# Altium footprint library VBlib_Switches.PcbLib: 20 footprints (part 1 of 2)
Each footprint in its own frame and in the unit in brackets; x right, y up, seen from the top. Pads: shape width x height; smd on the part's side, far side on the other; paste and mask are expansions set on the pad; w line width, h text height; cw(c..) or ccw(c..) is an arc to the next point about the centre after c.
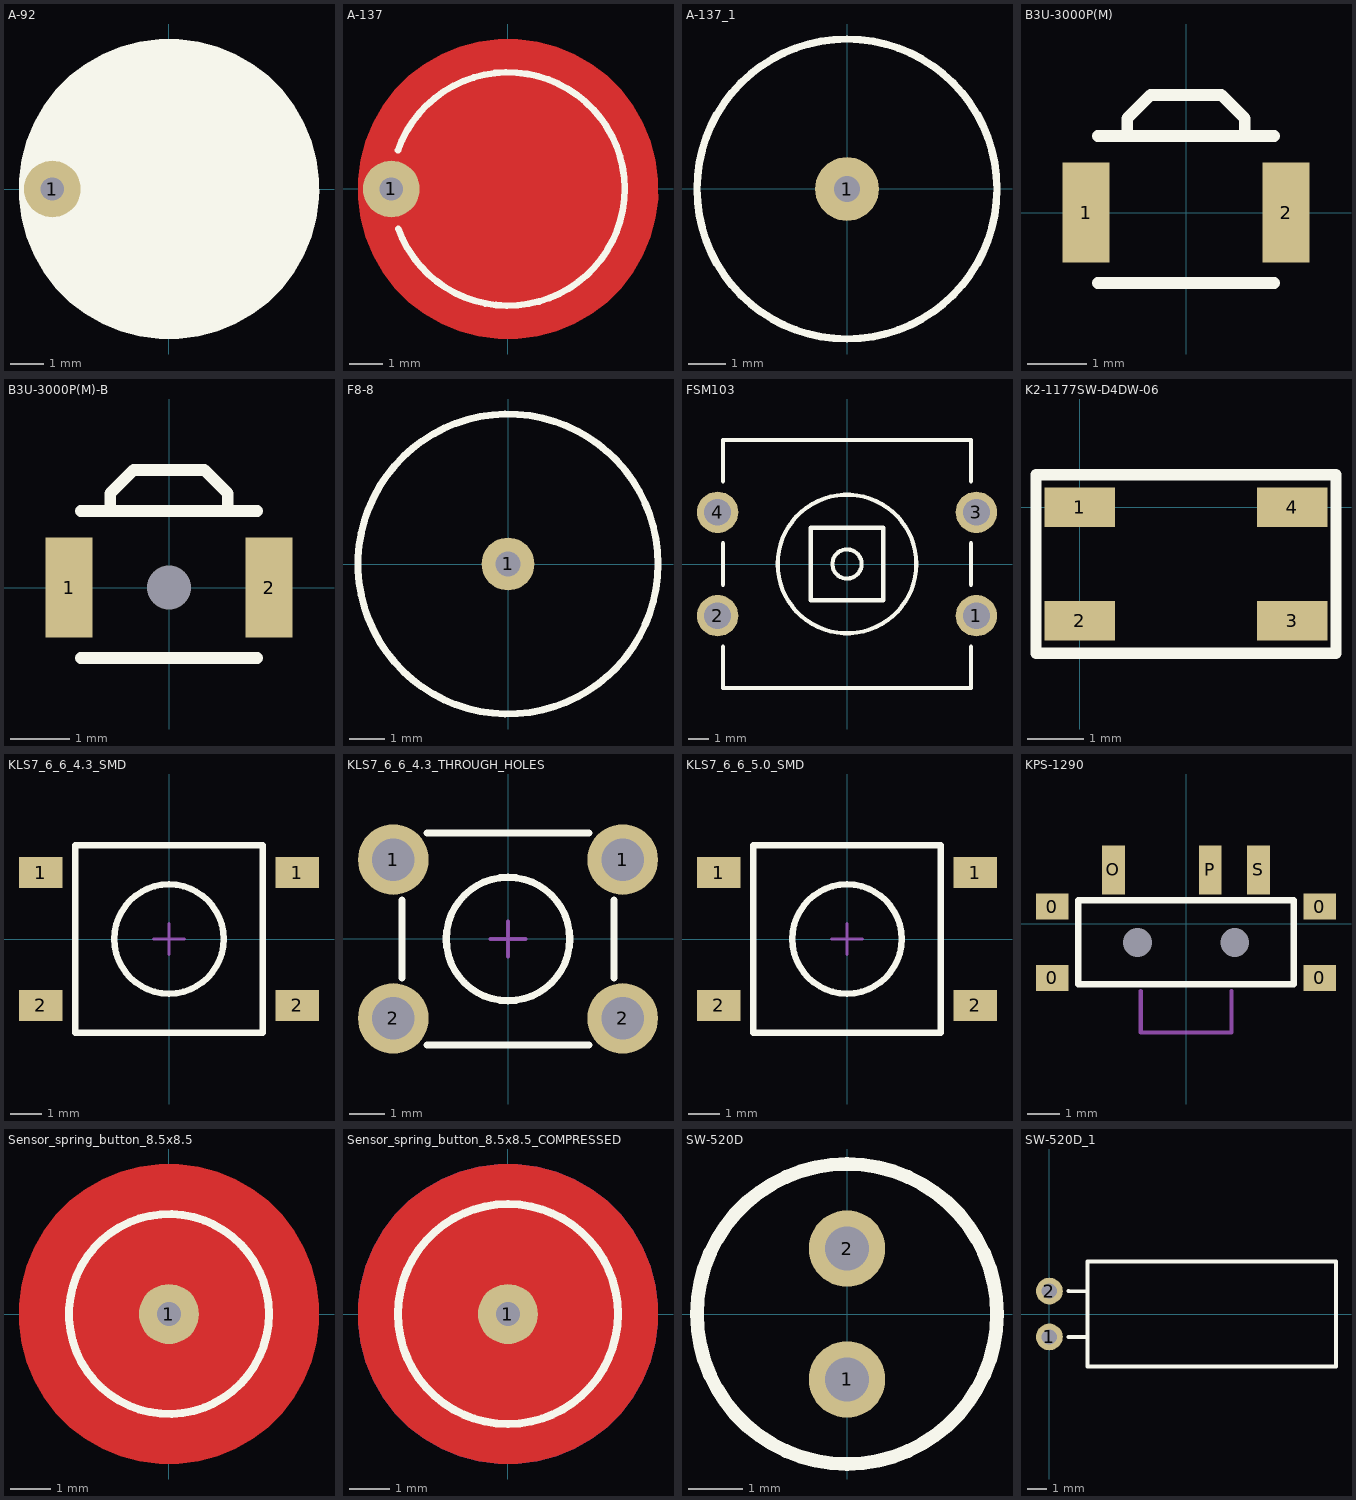
[diagram p0: the footprints below, top view; thin cyan lines are the x and y axes]

## A-92 [mm] "A-92 Sensor Spring"
height 16
pads (1):
  round 1.7 hole 0.7: 1(-3.5,0)
Top Overlay:
  pour cut-out: 0,4.5 0.295,4.5 0.88,4.423 1.45,4.27 1.995,4.045 2.505,3.75 2.973,3.39 3.39,2.973 3.75,2.505 4.045,1.995 4.27,1.45 4.423,0.88 4.5,0.295 4.5,0 4.5,-0.295 4.423,-0.88 4.27,-1.45 4.045,-1.995 3.75,-2.505 3.391,-2.973 2.973,-3.391 2.505,-3.75 1.995,-4.045 1.45,-4.27 0.88,-4.423 0.295,-4.5 0,-4.5 -0.295,-4.5 -0.88,-4.423 -1.45,-4.27 -1.995,-4.045 -2.505,-3.75 -2.973,-3.39 -3.39,-2.973 -3.75,-2.505 -4.045,-1.995 -4.27,-1.45 -4.423,-0.88 -4.5,-0.295 -4.5,0 -4.5,0.295 -4.423,0.88 -4.27,1.45 -4.045,1.995 -3.75,2.505 -3.391,2.973 -2.973,3.391 -2.505,3.75 -1.995,4.045 -1.45,4.27 -0.88,4.423 -0.295,4.5
  lines w0.2: -3.3,1.165 cw(c0,0) -3.289,-1.196
3D body "Sensor_Spring_A92.STEP": height 16.1, standoff -4.43, extent -6.193,-6.104 6.025,5.942

## A-137 [mm] "A-137 Sensor Spring"
height 4
pads (1):
  round 1.7 hole 0.7: 1(-3.5,0)
Top Layer:
  pour cut-out: 0,4.5 0.295,4.5 0.88,4.423 1.45,4.27 1.995,4.045 2.505,3.75 2.973,3.39 3.391,2.973 3.75,2.505 4.045,1.995 4.27,1.45 4.423,0.88 4.5,0.295 4.5,0 4.5,-0.295 4.423,-0.88 4.27,-1.45 4.045,-1.995 3.75,-2.505 3.391,-2.973 2.973,-3.391 2.505,-3.75 1.995,-4.045 1.45,-4.27 0.88,-4.423 0.295,-4.5 0,-4.5 -0.295,-4.5 -0.88,-4.423 -1.45,-4.27 -1.995,-4.045 -2.505,-3.75 -2.973,-3.39 -3.39,-2.973 -3.75,-2.505 -4.045,-1.995 -4.27,-1.45 -4.423,-0.88 -4.5,-0.295 -4.5,0 -4.5,0.295 -4.423,0.88 -4.27,1.45 -4.045,1.995 -3.75,2.505 -3.391,2.973 -2.973,3.391 -2.505,3.75 -1.995,4.045 -1.45,4.27 -0.88,4.423 -0.295,4.5
Top Overlay:
  lines w0.2: -3.3,1.165 cw(c0,0) -3.289,-1.196
3D body "Sensor_Spring_A137.STEP": height 4.72, standoff -2.03, extent -4.137,-4.164 4.183,4.073

## A-137_1 [mm]
height 6
pads (1):
  round 1.7 hole 0.7: 1(-0.011,-0.007)
Top Overlay:
  circle w0.2: c-0.011,-0.007 r4
3D body "Sensor_Spring_A137.STEP": height 7.22, standoff 0.47, extent -4.175,-4.126 4.145,4.112

## B3U-3000P(M) [mm] "Ultra-small Tactile Switch Without Ground Terminal"
height 1.2
pads (2):
  rect 0.8x1.7 smd: 1(-1.7,0) 2(1.7,0)
Top Overlay:
  lines w0.2: -1.5,-1.2 1.5,-1.2 ; -1.5,1.3 1.5,1.3 ; -1,1.3 -1,1.6 -0.6,2 0.6,2 1,1.6 1,1.3
3D body "b3u-3000p-b.stp": height 1.2, standoff -0.5, extent -2,-1.25 2,1.95

## B3U-3000P(M)-B [mm] "Ultra-small Tactile Switch Without Ground Terminal, with Boss"
height 1.2
pads (3):
  round 0 hole 0.75: 0(0,0)
  rect 0.8x1.7 smd: 1(-1.7,0) 2(1.7,0)
Top Overlay:
  lines w0.2: -1.5,-1.2 1.5,-1.2 ; -1.5,1.3 1.5,1.3 ; -1,1.3 -1,1.6 -0.6,2 0.6,2 1,1.6 1,1.3
3D body "b3u-3000p-b.stp": height 1.2, standoff -0.5, extent -2,-1.25 2,1.95

## F8-8 [mm] "Sensor_spring_button_8x8"
height 6
pads (1):
  round 1.5 hole 0.7: 1(0,0)
Top Overlay:
  circle w0.2: c0,0 r4.25
3D body "Spring_8.5x8.5_compressed_bottom.STEP": height 2.03, standoff -2.71, extent -2.75,-2.748 2.749,2.749
3D body "Spring_8.5x8.5_compressed_top2.STEP": height 5, standoff 3.32, extent -4.219,-4.081 4.219,4.081

## FSM103 [mm] "Тактовая кнопка 12x12mm (ф. TE Connectivity)"
height 7.3
pads (4):
  round 2 hole 1.3: 1(6.25,-2.5) 2(-6.25,-2.5) 3(6.25,2.5) 4(-6.25,2.5)
Top Overlay:
  circle w0.2: c0,0 r3.35
  circle w0.2: c0,0 r0.707
  lines w0.2: -6,-4 -6,-6 6,-6 6,-4 ; -6,-1 -6,1 ; -6,4 -6,6 6,6 6,4 ; 6,-1 6,1 ; -1.75,-1.75 1.75,-1.75 1.75,1.75 -1.75,1.75 -1.75,-1.75
3D body "FSM103A.STEP": height 7.32, standoff -2.83, extent -6.626,-6 6.626,6

## K2-1177SW-D4DW-06 [mm]
pads (4):
  rect 1.25x0.7 smd mask+0: 1(0,0) 2(0,-2) 3(3.75,-2) 4(3.75,0)
Top Overlay:
  lines w0.2: -0.775,-2.575 4.525,-2.575 4.525,0.575 -0.775,0.575 -0.775,-2.575

## KLS7_6_6_4.3_SMD [mm]
height 4.3
pads (4):
  rect 1.4x1 smd: 1(-4.1,2.125) 1(4.1,2.125) 2(-4.1,-2.125) 2(4.1,-2.125)
Top Overlay:
  circle w0.2: c0,0 r1.75
  lines w0.2: -3,-3 -3,3 3,3 3,-3 -3,-3
Mechanical 15:
  lines w0.1: -0.5,0 0.5,0 ; 0,-0.5 0,0.5
3D body "User Library-PTS645SL43SMTR92-LFS.STEP": height 4.3, standoff 0, extent -4.5,-3 4.5,3

## KLS7_6_6_4.3_THROUGH_HOLES [mm]
height 4.3
pads (4):
  round 2 hole 1.2: 1(-3.25,2.25) 1(3.25,2.25) 2(-3.25,-2.25) 2(3.25,-2.25)
Top Overlay:
  circle w0.2: c0,0 r1.75
  lines w0.2: -3,-1.1 -3,1.1 ; -2.3,-3 2.3,-3 ; -2.3,3 2.3,3 ; 3,-1.1 3,1.1
Mechanical 15:
  lines w0.1: -0.5,0 0.5,0 ; 0,-0.5 0,0.5
3D body "tact_switch_6x6mm3.STEP": height 4.5, standoff -3.4, extent -3.969,-3 3.969,3

## KLS7_6_6_5.0_SMD [mm]
height 5
pads (4):
  rect 1.4x1 smd: 1(-4.1,2.125) 1(4.1,2.125) 2(-4.1,-2.125) 2(4.1,-2.125)
Top Overlay:
  circle w0.2: c0,0 r1.75
  lines w0.2: -3,-3 3,-3 3,3 -3,3 -3,-3
Mechanical 15:
  lines w0.1: -0.5,0 0.5,0 ; 0,-0.5 0,0.5
3D body "User Library-PTS645SL50SMTR92-LFS.STEP": height 5, standoff 0, extent -4.5,-3 4.5,3

## KPS-1290 [mil] "KPS-1290 Движковый переключатель"
pads (9):
  rect 40x32 smd: 0(-163.69,-66.15) 0(-163.69,21.15) 0(163.69,-66.15) 0(163.69,21.15)
  round 0 hole 35.43 unplated: 1(-59.36,-22.85) 1(59.69,-22.85)
  rect 28x60 smd: O(-88.89,66.15) P(29.69,66.15) S(88.69,66.15)
Top Overlay:
  lines w8: -132.2,-74.03 131.69,-74.03 131.69,29.15 -132.2,29.15 -132.2,-74.03
Mechanical 16:
  lines w5: -55.43,-81.9 -55.43,-133.08 55.69,-133.08 55.69,-81.9
3D body "switch_kps-1290.stp": height 55.12, standoff -19.68, extent -151.88,-133.08 151.27,63.77

## Sensor_spring_button_8.5x8.5 [mm] "Sensor_spring_button_8.5x8.5"
height 8.5
pads (1):
  round 1.5 hole 0.6: 1(0,0)
Top Layer:
  pour cut-out: 0,3.75 0.246,3.75 0.733,3.686 1.208,3.558 1.662,3.37 2.088,3.125 2.478,2.825 2.825,2.478 3.125,2.088 3.37,1.662 3.559,1.208 3.686,0.733 3.75,0.245 3.75,0 3.75,-0.246 3.686,-0.733 3.559,-1.208 3.37,-1.662 3.125,-2.088 2.825,-2.478 2.478,-2.825 2.088,-3.124 1.662,-3.37 1.208,-3.558 0.733,-3.685 0.246,-3.75 0,-3.75 -0.245,-3.75 -0.733,-3.685 -1.208,-3.558 -1.662,-3.37 -2.088,-3.124 -2.478,-2.825 -2.825,-2.477 -3.124,-2.087 -3.37,-1.662 -3.558,-1.208 -3.686,-0.733 -3.75,-0.245 -3.75,0 -3.75,0.246 -3.686,0.734 -3.558,1.208 -3.37,1.662 -3.125,2.088 -2.825,2.478 -2.478,2.826 -2.088,3.125 -1.662,3.37 -1.208,3.559 -0.733,3.686 -0.246,3.75
Bottom Layer:
  pour cut-out: 0,2.5 0.246,2.5 0.729,2.404 1.184,2.215 1.594,1.942 1.942,1.594 2.215,1.184 2.404,0.729 2.5,0.246 2.5,0 2.5,-0.246 2.404,-0.729 2.215,-1.184 1.942,-1.594 1.594,-1.942 1.184,-2.215 0.729,-2.404 0.246,-2.5 0,-2.5 -0.246,-2.5 -0.729,-2.404 -1.184,-2.215 -1.593,-1.942 -1.942,-1.594 -2.215,-1.184 -2.404,-0.729 -2.5,-0.246 -2.5,0 -2.5,0.246 -2.404,0.729 -2.215,1.184 -1.942,1.594 -1.594,1.942 -1.184,2.215 -0.729,2.404 -0.246,2.5
Top Overlay:
  circle w0.2: c0,0 r2.5
3D body "Spring_8.5x8.5.STEP": height 8.43, standoff -2.81, extent -4.4,-3.976 4.117,4.251

## Sensor_spring_button_8.5x8.5_COMPRESSED [mm] "Sensor_spring_button_8.5x8.5"
height 6
pads (1):
  round 1.5 hole 0.6: 1(0,0)
Top Layer:
  pour cut-out: 0,3.75 0.246,3.75 0.733,3.686 1.208,3.558 1.662,3.37 2.088,3.125 2.478,2.825 2.825,2.478 3.125,2.088 3.37,1.662 3.559,1.208 3.686,0.733 3.75,0.245 3.75,0 3.75,-0.246 3.686,-0.733 3.559,-1.208 3.37,-1.662 3.125,-2.088 2.825,-2.478 2.478,-2.825 2.088,-3.124 1.662,-3.37 1.208,-3.558 0.733,-3.685 0.246,-3.75 0,-3.75 -0.245,-3.75 -0.733,-3.685 -1.208,-3.558 -1.662,-3.37 -2.088,-3.124 -2.478,-2.825 -2.825,-2.477 -3.124,-2.087 -3.37,-1.662 -3.558,-1.208 -3.686,-0.733 -3.75,-0.245 -3.75,0 -3.75,0.246 -3.686,0.734 -3.558,1.208 -3.37,1.662 -3.125,2.088 -2.825,2.478 -2.478,2.826 -2.088,3.125 -1.662,3.37 -1.208,3.559 -0.733,3.686 -0.246,3.75
Bottom Layer:
  pour cut-out: 0,3.75 0.246,3.75 0.733,3.686 1.208,3.558 1.662,3.37 2.088,3.125 2.478,2.825 2.825,2.478 3.125,2.088 3.37,1.662 3.559,1.208 3.686,0.733 3.75,0.245 3.75,0 3.75,-0.246 3.686,-0.733 3.559,-1.208 3.37,-1.662 3.125,-2.088 2.825,-2.478 2.478,-2.825 2.088,-3.124 1.662,-3.37 1.208,-3.558 0.733,-3.685 0.246,-3.75 0,-3.75 -0.245,-3.75 -0.733,-3.685 -1.208,-3.558 -1.662,-3.37 -2.088,-3.124 -2.478,-2.825 -2.825,-2.477 -3.124,-2.087 -3.37,-1.662 -3.558,-1.208 -3.686,-0.733 -3.75,-0.245 -3.75,0 -3.75,0.246 -3.686,0.734 -3.558,1.208 -3.37,1.662 -3.125,2.088 -2.825,2.478 -2.478,2.826 -2.088,3.125 -1.662,3.37 -1.208,3.559 -0.733,3.686 -0.246,3.75
Top Overlay:
  circle w0.2: c0,0 r2.75
3D body "Spring_8.5x8.5_compressed_bottom.STEP": height 2.03, standoff -2.71, extent -2.75,-2.748 2.749,2.749
3D body "Spring_8.5x8.5_compressed_top2.STEP": height 5, standoff 3.32, extent -4.219,-4.081 4.219,4.081

## SW-520D [mm] "Roll Ball Switch"
height 13.5
pads (2):
  round 1.4 hole 0.8: 1(0,-1.2) 2(0,1.2)
Top Overlay:
  circle w0.25: c0,0 r2.75
3D body "SW-520D.STEP": height 13.5, standoff -2.5, extent -2.75,-2.75 2.75,2.75

## SW-520D_1 [mm] "Roll Ball Switch"
height 5.5
pads (2):
  round 1.4 hole 0.8: 1(0,-1.2) 2(0,1.2)
Top Overlay:
  lines w0.2: 1,-1.2 2,-1.2 ; 1,1.2 2,1.193 ; 15,2.75 15,-2.75 2,-2.75 2,2.75 15,2.75
3D body "SWD-520_hor.STEP": height 5.5, standoff -2.5, extent -0.3,-2.75 15,2.75